# EAGLE library part MAX1758 (library pierre_vv)
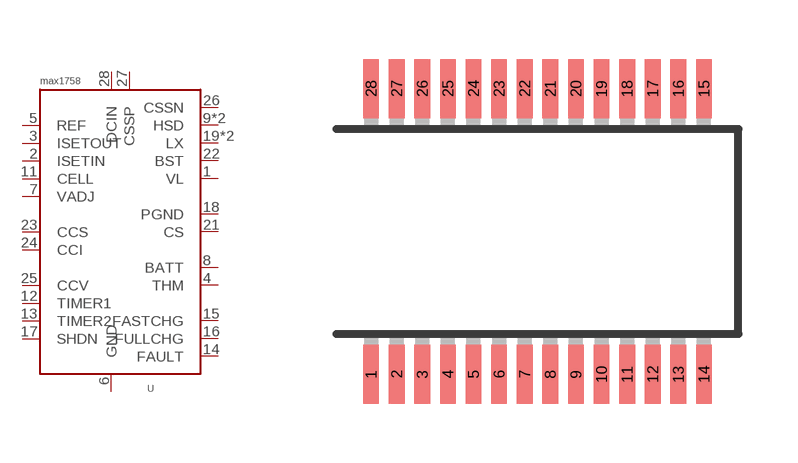
[diagram p14: symbol with the pads of SSOP28; footprint SSOP28]

Designator prefix -

## MAX1758  [SSOP28]
1  VL
2  ISETIN
3  ISETOUT
4  THM
5  REF
6  GND
7  VADJ
8  BATT
9  HSD
10  HSD
11  CELL
12  TIMER1
13  TIMER2
14  FAULT
15  FASTCHG
16  FULLCHG
17  SHDN
18  PGND
19  LX
20  LX
21  CS
22  BST
23  CCS
24  CCI
25  CCV
26  CSSN
27  CSSP
28  DCIN

## Footprint SSOP28 (pad centres in mm)
smd 0.4 x 1.5: 1 -4.225,-3.625; 2 -3.575,-3.625; 3 -2.925,-3.625; 4 -2.275,-3.625; 5 -1.625,-3.625; 6 -0.975,-3.625; 7 -0.325,-3.625; 8 0.325,-3.625; 9 0.975,-3.625; 10 1.625,-3.625; 11 2.275,-3.625; 12 2.925,-3.625; 13 3.575,-3.625; 14 4.225,-3.625; 15 4.225,3.625; 16 3.575,3.625; 17 2.925,3.625; 18 2.275,3.625; 19 1.625,3.625; 20 0.975,3.625; 21 0.325,3.625; 22 -0.325,3.625; 23 -0.975,3.625; 24 -1.625,3.625; 25 -2.275,3.625; 26 -2.925,3.625; 27 -3.575,3.625; 28 -4.225,3.625